# Altium footprint library Gastroscopy-LED.PcbLib: 2 footprints
Each footprint in its own frame and in the unit in brackets; x right, y up, seen from the top. Pads: shape width x height; smd on the part's side, far side on the other; paste and mask are expansions set on the pad; w line width, h text height; cw(c..) or ccw(c..) is an arc to the next point about the centre after c.
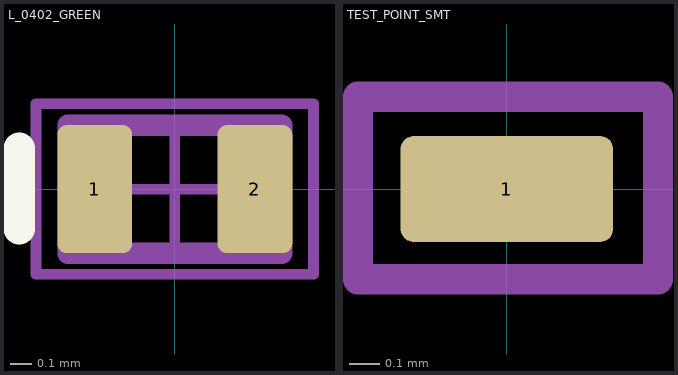
[diagram p0: the footprints below, top view; thin cyan lines are the x and y axes]

## L_0402_GREEN [mm] "SMD LED LAMP"
height 1.4
pads (2):
  rrect25% 0.35x0.6 smd mask+0.05: 1(-0.375,0) 2(0.375,0)
Top Overlay:
  lines w0.15: -0.73,-0.184 -0.73,0.19
Mechanical 13:
  lines w0.1: -0.5,-0.3 -0.5,0.3 0.5,0.3 0.5,-0.3 -0.5,-0.3
Mechanical 15:
  lines w0.05: -0.3,0 0.3,0 ; 0,-0.3 0,0.3 ; -0.65,-0.398 0.649,-0.398 0.649,0.399 -0.65,0.399 -0.65,-0.398
3D body "User Library-LED_1006_G.STEP": height 0.2, standoff 0, extent -0.5,-0.3 0.5,0.3

## TEST_POINT_SMT [mm] "SMT test point, 40 mil pad"
pads (1):
  rrect25% 0.7x0.35 smd mask+0.05: 1(0,0)
Mechanical 15:
  lines w0.05: -0.145,0.001 0.143,0.001 ; 0,-0.143 0,0.145
  lines w0.1: -0.49,-0.297 0.498,-0.297 0.498,0.304 -0.49,0.304 -0.49,-0.297